# EAGLE library part 1PEEK-9_C (library con-odu_med)
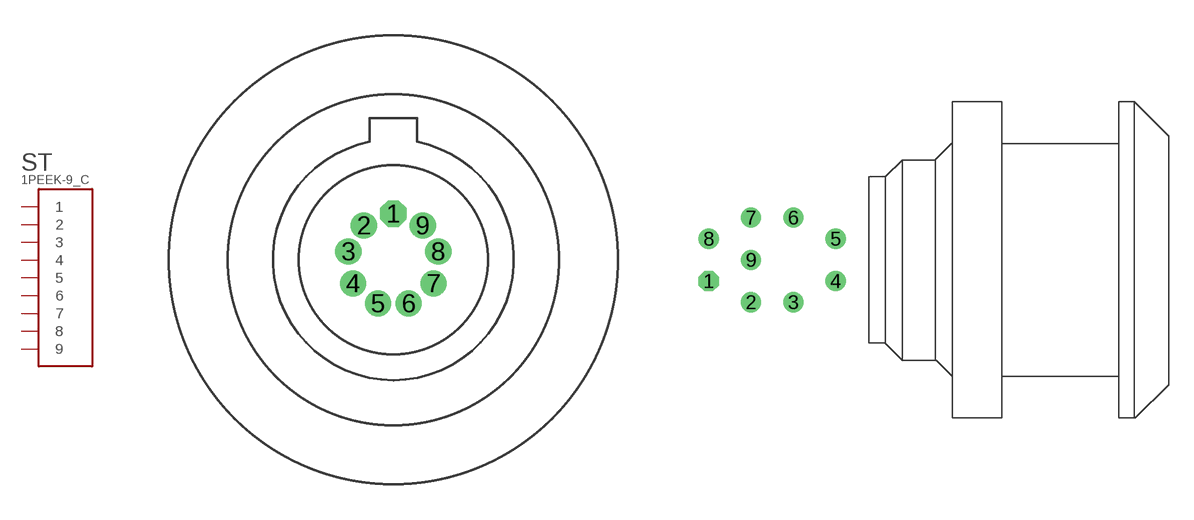
[diagram p14: symbol with the pads of 1PEEK09; footprints 1PEEK09, 1PEEK09_S]

Designator prefix ST

## 1PEEK-9_C  [1PEEK09]
1  1  pas
2  2  pas
3  3  pas
4  4  pas
5  5  pas
6  6  pas
7  7  pas
8  8  pas
9  9  pas

## 1PEEK-9_C1PEEK-9_S  [1PEEK09_S]
Pads as for 1PEEK09

## Footprint 1PEEK09 (pad centres in mm)
drill 0.6 octagon: 1 0,1.95
drill 0.6: 2 -1.25,1.45; 3 -1.9,0.35; 4 -1.7,-1; 5 -0.65,-1.85; 6 0.65,-1.85; 7 1.7,-1; 8 1.9,0.35; 9 1.25,1.45

## Footprint 1PEEK09_S (pad centres in mm)
drill 0.7 octagon: 1 -7.62,-1.27
drill 0.7: 2 -5.08,-2.54; 3 -2.54,-2.54; 4 0,-1.27; 5 0,1.27; 6 -2.54,2.54; 7 -5.08,2.54; 8 -7.62,1.27; 9 -5.08,0